# Altium integrated library TS3DV621RUAR.IntLib: 1 symbol
Pins are listed as number, name and electrical type; pins without a type are passive.

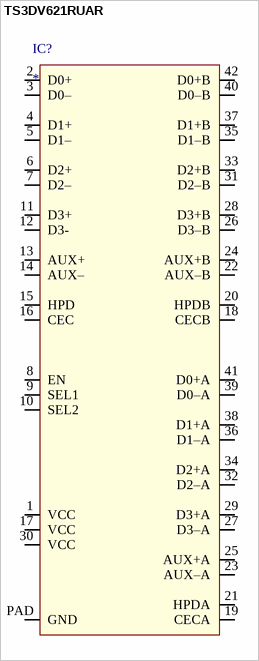
[diagram p0: symbol TS3DV621RUAR]

## TS3DV621RUAR
designator IC?
ID: TS3DV621RUAR; PDF: http://www.ti.com/lit/ds/symlink/ts3dv621.pdf; PRICE: 1.81000; BUY_LINK: http://www.digikey.com/product-detail/en/texas-instruments/TS3DV621RUAR/296-30394-1-ND/3250122
footprint QFN42
pins: 1 VCC, 2 D0+, 3 D0–, 4 D1+, 5 D1–, 6 D2+, 7 D2–, 8 EN, 9 SEL1, 10 SEL2, 11 D3+, 12 D3-, 13 AUX+, 14 AUX–, 15 HPD, 16 CEC, 17 VCC, 18 CECB, 19 CECA, 20 HPDB, 21 HPDA, 22 AUX–B, 23 AUX–A, 24 AUX+B, 25 AUX+A, 26 D3–B, 27 D3–A, 28 D3+B, 29 D3+A, 30 VCC, 31 D2–B, 32 D2–A, 33 D2+B, 34 D2+A, 35 D1–B, 36 D1–A, 37 D1+B, 38 D1+A, 39 D0–A, 40 D0–B, 41 D0+A, 42 D0+B, PAD GND